# Altium footprint library Theremin_Project1.PcbLib: 37 footprints (part 1 of 3)
Each footprint in its own frame and in the unit in brackets; x right, y up, seen from the top. Pads: shape width x height; smd on the part's side, far side on the other; paste and mask are expansions set on the pad; w line width, h text height; cw(c..) or ccw(c..) is an arc to the next point about the centre after c.
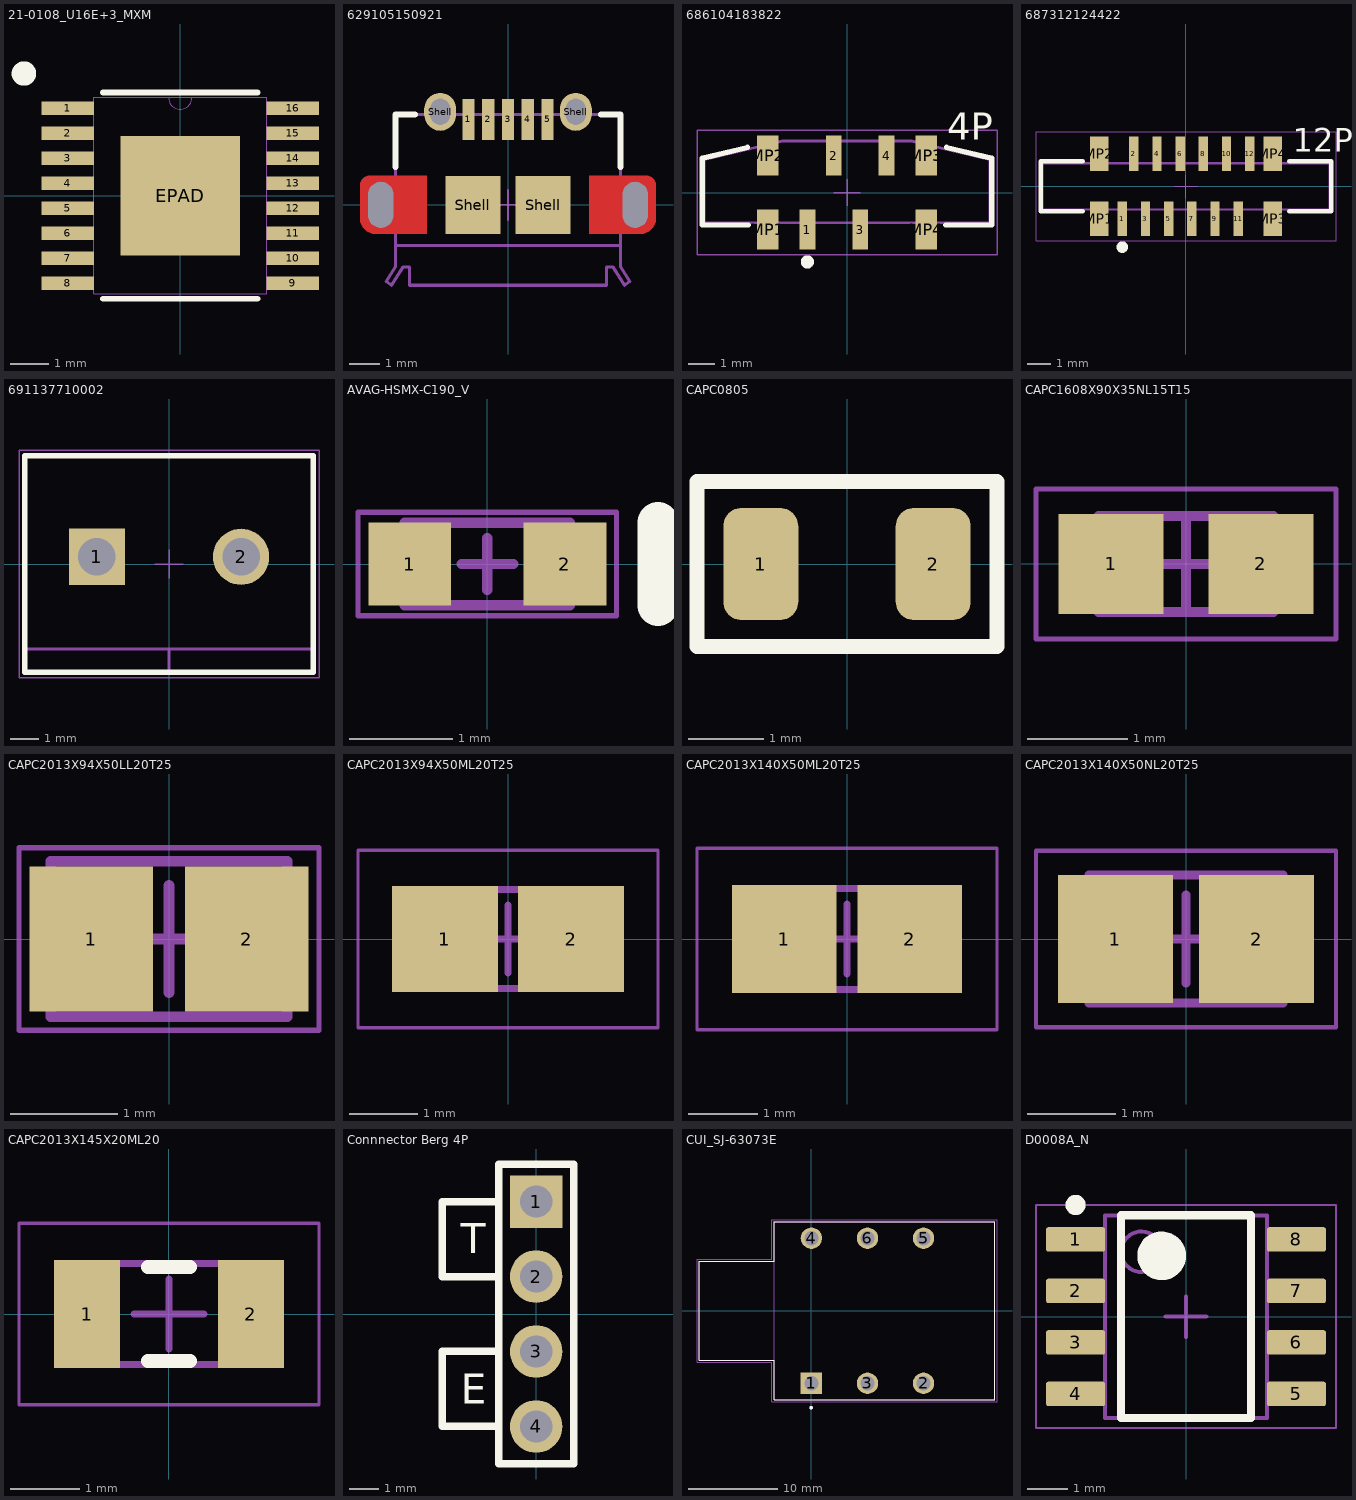
[diagram p0: the footprints below, top view; thin cyan lines are the x and y axes]

## 21-0108_U16E+3_MXM [mil]
pads (17):
  rect 53.5x14 smd paste+0 mask+0: 1(-115.25,89.57) 2(-115.25,63.98) 3(-115.25,38.39) 4(-115.25,12.8) 5(-115.25,-12.8) 6(-115.25,-38.39) 7(-115.25,-63.98) 8(-115.25,-89.57) 9(115.25,-89.57) 10(115.25,-63.98) 11(115.25,-38.39) 12(115.25,-12.8) 13(115.25,12.8) 14(115.25,38.39) 15(115.25,63.98) 16(115.25,89.57)
  rect 122x122 smd paste-60.5 mask+0: EPAD(0,0)
Top Overlay:
  circle w15: c-160,125 r5
  lines w6: -78.92,-105.5 78.92,-105.5 ; -78.92,105.5 78.92,105.5
Top Paste:
  region: 57.06,-3.94 3.94,-3.94 3.94,-57.06 57.06,-57.06
  region: 57.06,57.06 3.94,57.06 3.94,3.94 57.06,3.94
  region: -3.94,-3.94 -57.06,-3.94 -57.06,-57.06 -3.94,-57.06
  region: -3.94,57.06 -57.06,57.06 -57.06,3.94 -3.94,3.94
Mechanical 13:
  lines w0: -12,100.5 ccw(c0,100.5) 12,100.5
  lines w1: -128,-95.57 -88.5,-95.57 -88.5,-83.57 -128,-83.57 -128,-95.57 ; -128,-69.98 -88.5,-69.98 -88.5,-57.98 -128,-57.98 -128,-69.98 ; -128,-44.39 -88.5,-44.39 -88.5,-32.39 -128,-32.39 -128,-44.39 ; -128,-18.8 -88.5,-18.8 -88.5,-6.8 -128,-6.8 -128,-18.8 ; -128,6.8 -88.5,6.8 -88.5,18.8 -128,18.8 -128,6.8 ; -128,32.39 -88.5,32.39 -88.5,44.39 -128,44.39 -128,32.39 ; -128,57.98 -88.5,57.98 -88.5,69.98 -128,69.98 -128,57.98 ; -128,83.57 -88.5,83.57 -88.5,95.57 -128,95.57 -128,83.57 ; -88.5,-100.5 -88.5,100.5 88.5,100.5 88.5,-100.5 -88.5,-100.5 ; 88.5,-95.57 128,-95.57 128,-83.57 88.5,-83.57 88.5,-95.57 ; 88.5,-69.98 128,-69.98 128,-57.98 88.5,-57.98 88.5,-69.98 ; 88.5,-44.39 128,-44.39 128,-32.39 88.5,-32.39 88.5,-44.39 ; 88.5,-18.8 128,-18.8 128,-6.8 88.5,-6.8 88.5,-18.8 ; 88.5,6.8 128,6.8 128,18.8 88.5,18.8 88.5,6.8 ; 88.5,32.39 128,32.39 128,44.39 88.5,44.39 88.5,32.39 ; 88.5,57.98 128,57.98 128,69.98 88.5,69.98 88.5,57.98 ; 88.5,83.57 128,83.57 128,95.57 88.5,95.57 88.5,83.57
3D body "21-0108_U16E+3_MXM.step": height 43.11, standoff -2.01, extent -127.99,-100.51 127.99,100.51

## 629105150921 [mm] "Micro USB 2.0 Type AB Horizontal"
height 3
pads (11):
  rect 0.4x1.35 smd: 1(-1.3,2.805) 2(-0.65,2.805) 3(0,2.805) 4(0.65,2.805) 5(1.3,2.805)
  round 0 / inner oval 1.4x2.1 / far side oval 1.4x2.1 hole 0.825 slot 1.5 at 90 deg mask+0.102: Shell(-4.175,0)
  oval 1.05x1.25 hole 0.65 slot 0.85 at 90 deg: Shell(-2.225,3.055) Shell(2.225,3.055)
  rect 1.8x1.9 smd: Shell(-1.15,0) Shell(1.15,0)
  round 0 / inner round 0 / far side oval 1.4x2.1 hole 0.825 slot 1.5 at 90 deg mask+0.102: Shell(4.175,0)
Top Layer:
  region: 4.353,-0.95 4.452,-0.95 4.636,-0.874 4.776,-0.733 4.852,-0.549 4.852,-0.45 4.852,0.65 4.852,0.71 4.807,0.82 4.722,0.904 4.612,0.95 4.553,0.95 2.668,0.95 2.668,-0.95
  region: -4.353,-0.95 -4.452,-0.95 -4.636,-0.874 -4.776,-0.733 -4.852,-0.549 -4.852,-0.45 -4.852,0.65 -4.852,0.71 -4.807,0.82 -4.722,0.904 -4.612,0.95 -4.553,0.95 -2.668,0.95 -2.668,-0.95
Top Overlay:
  lines w0.2: -3.7,1.25 -3.7,2.97 -3.05,2.97 ; 3.05,2.97 3.7,2.97 3.7,1.25
Mechanical 2:
  lines w0.1: -3.7,-1.33 3.7,-1.33
  text "PCB Edge" at -1.1,-2 h0.41
Mechanical 13:
  lines w0.1: -4,-2.515 -3.7,-2.04 -3.7,2.97 3.7,2.97 3.7,-2.04 4,-2.515 3.825,-2.64 3.45,-2.04 3.24,-2.04 3.24,-2.64 -3.24,-2.64 -3.24,-2.04 -3.45,-2.04 -3.825,-2.64 -4,-2.515
Mechanical 15:
  lines w0.05: -0.5,0 0.5,0 ; 0,-0.5 0,0.5
3D body "629105150921.stp": height 2.76, standoff -0.52, extent -4.3,-2.64 4.3,3.23

## 686104183822 [mm] "ZIF Connectors, Vertical, Type A, pitch 1mm, 4p"
height 4
pads (8):
  rect 0.6x1.5 smd: 1(-1.5,-1.4) 2(-0.5,1.4) 3(0.5,-1.4) 4(1.5,1.4)
  rect 0.8x1.5 smd: MP1(-3,-1.4) MP2(-3,1.4) MP3(3,1.4) MP4(3,-1.4)
Top Overlay:
  circle w0.25: c-1.5,-2.625 r0.125
  lines w0.2: -3.765,1.708 -5.475,1.297 -5.475,-1.225 -3.725,-1.225 ; 3.725,-1.225 5.475,-1.225 5.475,1.297 3.765,1.708
  text "4P" at 3.8,2 h1.02
Mechanical 13:
  lines w0.1: -5.4,-1.15 5.4,-1.15 5.4,1.24 2.45,1.949 -2.45,1.95 -5.4,1.24 -5.4,-1.15
Mechanical 15:
  lines w0.05: -0.5,0 0.5,0 ; 0,-0.5 0,0.5 ; -5.675,-2.35 5.675,-2.35 5.675,2.35 -5.675,2.35 -5.675,-2.35
3D body "686104183822.stp": height 4, standoff 0, extent -5.4,-1.65 5.4,1.95

## 687312124422 [mm] "ZIF Connectors, Vertical, Type A, pitch 0.5mm, 12p"
height 4.5
pads (16):
  rect 0.4x1.5 smd: 1(-2.75,-1.4) 2(-2.25,1.4) 3(-1.75,-1.4) 4(-1.25,1.4) 5(-0.75,-1.4) 6(-0.25,1.4) 7(0.25,-1.4) 8(0.75,1.4) 9(1.25,-1.4) 10(1.75,1.4) 11(2.25,-1.4) 12(2.75,1.4)
  rect 0.8x1.5 smd: MP1(-3.75,-1.4) MP2(-3.75,1.4) MP3(3.75,-1.4) MP4(3.75,1.4)
Top Overlay:
  circle w0.25: c-2.75,-2.625 r0.125
  lines w0.2: -4.45,-1.075 -6.275,-1.075 -6.275,1.075 -4.45,1.075 ; 4.45,-1.075 6.275,-1.075 6.275,1.075 4.45,1.075
  text "12P" at 4.6,1.5 h1.02
Mechanical 13:
  lines w0.1: -6.2,-1 -6.2,1 6.2,1 6.2,-1 -6.2,-1
Mechanical 15:
  lines w0.05: -0.5,0 0.5,0 ; 0,-0.5 0,0.5 ; -6.475,-2.35 -6.475,2.35 6.475,2.35 6.475,-2.35 -6.475,-2.35
3D body "687312124422.stp": height 4.92, standoff 0.02, extent -6.2,-1.75 6.2,1.75

## 691137710002 [mm] "Horizontal Cable Entry with Pressure Clamp, pitch 5mm, 02p"
height 11.5
pads (2):
  rect 1.95x1.95 hole 1.3: 1(-2.5,0.25)
  round 1.95 hole 1.3: 2(2.5,0.25)
Top Overlay:
  lines w0.2: -5,-3.75 5,-3.75 5,3.75 -5,3.75 -5,-3.75
Mechanical 13:
  lines w0.1: -5,-2.95 5,-2.95 ; 0,-3.75 0,-2.95 ; -5,-3.75 -5,3.75 5,3.75 5,-3.75 -5,-3.75
Mechanical 15:
  lines w0.05: -0.5,0 0.5,0 ; 0,-0.5 0,0.5 ; -5.2,-3.95 5.2,-3.95 5.2,3.95 -5.2,3.95 -5.2,-3.95
3D body "691137710002.stp": height 11.6, standoff -3.5, extent -5,-3.75 5,3.75

## AVAG-HSMX-C190_V [mm] "SMD, 2-Leads, Body 1.6x0.8mm, Height 0.9mm"
height 0.9
pads (2):
  rect 0.8x0.8 smd: 1(-0.75,0) 2(0.75,0)
Top Overlay:
  lines w0.4: 1.65,-0.4 1.65,0.4
Mechanical 13:
  lines w0.1: -0.8,-0.4 0.8,-0.4 0.8,0.4 -0.8,0.4 -0.8,-0.4
Mechanical 15:
  lines w0.05: -1.25,-0.5 -1.25,0.5 1.25,0.5 1.25,-0.5 -1.25,-0.5
  lines w0.1: -0.25,0 0.25,0 ; 0,-0.25 0,0.25
3D body: height 0.4, standoff 0, extent -0.8,-0.4 0.8,0.4
3D body: height 0.9, standoff 0.4, extent -0.55,-0.4 0.55,0.4

## CAPC0805 [mm] "Chip Capacitor, 2-Leads, Body 2.00x1.25mm, IPC Low Density"
height 0.6
pads (2):
  rrect50% 1x1.5 smd: 1(-1.15,0) 2(1.15,0)
Top Overlay:
  lines w0.2: -2,-1.1 2,-1.1 2,1.1 -2,1.1 -2,-1.1
Top Assembly:
  text ".Comment" at 2.5,-0.6 h1
3D body "CAPC2012X06M.step": height 0.6, standoff 0, extent -1.05,-0.675 1.05,0.675

## CAPC1608X90X35NL15T15 [mm] "Chip Capacitor, 2-Leads, Body 1.60x0.81mm, IPC Medium Density"
height 0.9
pads (2):
  rect 1.05x1 smd: 1(-0.75,0) 2(0.75,0)
Mechanical 13:
  lines w0.1: -0.875,-0.48 0.875,-0.48 0.875,0.48 -0.875,0.48 -0.875,-0.48
Mechanical 15:
  lines w0.05: -1.5,-0.75 1.5,-0.75 1.5,0.75 -1.5,0.75 -1.5,-0.75
  lines w0.1: -0.48,0 0.48,0 ; 0,-0.48 0,0.48
3D body: height 0.9, standoff 0, extent 0.525,-0.48 0.875,0.48
3D body: height 0.9, standoff 0, extent -0.875,-0.48 -0.525,0.48
3D body: height 0.9, standoff 0, extent -0.525,-0.48 0.525,0.48

## CAPC2013X94X50LL20T25 [mm] "Chip Capacitor, 2-Leads, Body 2.01x1.25mm, IPC High Density"
height 0.94
pads (2):
  rect 1.15x1.35 smd: 1(-0.725,0) 2(0.725,0)
Mechanical 13:
  lines w0.1: -1.105,-0.725 1.105,-0.725 1.105,0.725 -1.105,0.725 -1.105,-0.725
Mechanical 15:
  lines w0.05: -1.4,-0.85 1.4,-0.85 1.4,0.85 -1.4,0.85 -1.4,-0.85
  lines w0.1: -0.5,0 0.5,0 ; 0,-0.5 0,0.5
3D body: height 0.94, standoff 0, extent 0.605,-0.725 1.105,0.725
3D body: height 0.94, standoff 0, extent -1.105,-0.725 -0.605,0.725
3D body: height 0.94, standoff 0, extent -0.605,-0.725 0.605,0.725

## CAPC2013X94X50ML20T25 [mm] "Chip Capacitor, 2-Leads, Body 2.01x1.25mm, IPC Low Density"
height 0.94
pads (2):
  rect 1.55x1.55 smd: 1(-0.925,0) 2(0.925,0)
Mechanical 13:
  lines w0.1: -1.105,-0.725 1.105,-0.725 1.105,0.725 -1.105,0.725 -1.105,-0.725
Mechanical 15:
  lines w0.05: -2.2,-1.3 2.2,-1.3 2.2,1.3 -2.2,1.3 -2.2,-1.3
  lines w0.1: -0.5,0 0.5,0 ; 0,-0.5 0,0.5
3D body: height 0.94, standoff 0, extent 0.605,-0.725 1.105,0.725
3D body: height 0.94, standoff 0, extent -1.105,-0.725 -0.605,0.725
3D body: height 0.94, standoff 0, extent -0.605,-0.725 0.605,0.725

## CAPC2013X140X50ML20T25 [mm] "Chip Capacitor, 2-Leads, Body 2.00x1.25mm, IPC Low Density"
height 1.4
pads (2):
  rect 1.5x1.55 smd: 1(-0.9,0) 2(0.9,0)
Mechanical 13:
  lines w0.1: -1.1,-0.725 1.1,-0.725 1.1,0.725 -1.1,0.725 -1.1,-0.725
Mechanical 15:
  lines w0.05: -2.15,-1.3 2.15,-1.3 2.15,1.3 -2.15,1.3 -2.15,-1.3
  lines w0.1: -0.5,0 0.5,0 ; 0,-0.5 0,0.5
3D body: height 1.4, standoff 0, extent 0.6,-0.725 1.1,0.725
3D body: height 1.4, standoff 0, extent -1.1,-0.725 -0.6,0.725
3D body: height 1.4, standoff 0, extent -0.6,-0.725 0.6,0.725

## CAPC2013X140X50NL20T25 [mm] "Chip Capacitor, 2-Leads, Body 2.00x1.25mm, IPC Medium Density"
height 1.4
pads (2):
  rect 1.3x1.45 smd: 1(-0.8,0) 2(0.8,0)
Mechanical 13:
  lines w0.1: -1.1,-0.725 1.1,-0.725 1.1,0.725 -1.1,0.725 -1.1,-0.725
Mechanical 15:
  lines w0.05: -1.7,-1 1.7,-1 1.7,1 -1.7,1 -1.7,-1
  lines w0.1: -0.5,0 0.5,0 ; 0,-0.5 0,0.5
3D body: height 1.4, standoff 0, extent 0.6,-0.725 1.1,0.725
3D body: height 1.4, standoff 0, extent -1.1,-0.725 -0.6,0.725
3D body: height 1.4, standoff 0, extent -0.6,-0.725 0.6,0.725

## CAPC2013X145X20ML20 [mm] "Chip Capacitor, 2-Leads, Body 2.20x1.45mm, IPC Low Density"
height 1.45
pads (2):
  rect 0.95x1.55 smd: 1(-1.175,0) 2(1.175,0)
Top Overlay:
  lines w0.2: -0.3,-0.675 0.3,-0.675 ; -0.3,0.675 0.3,0.675
Mechanical 13:
  lines w0.1: -1.1,-0.725 1.1,-0.725 1.1,0.725 -1.1,0.725 -1.1,-0.725
Mechanical 15:
  lines w0.05: -2.15,-1.3 2.15,-1.3 2.15,1.3 -2.15,1.3 -2.15,-1.3
  lines w0.1: -0.5,0 0.5,0 ; 0,-0.5 0,0.5
3D body: height 1.45, standoff 0, extent 0.9,-0.725 1.1,0.725
3D body: height 1.45, standoff 0, extent -1.1,-0.725 -0.9,0.725
3D body: height 1.45, standoff 0, extent -0.9,-0.725 0.9,0.725

## Connnector Berg 4P [mil]
pads (4):
  rect 70x70 hole 43.31: 1(0,150)
  round 70 hole 43.31: 2(0,50) 3(0,-50) 4(0,-150)
Top Overlay:
  lines w10: -50,-150 -125,-150 -125,-50 -50,-50 ; -50,50 -125,50 -125,150 -50,150 ; -50,-200 50,-200 50,200 -50,200 -50,-200
  text "E" at -100.24,-119.92 h40
  text "T" at -100.24,80.87 h40
3D body "61300411121_Download_STP_61300411121_rev1BergMale.stp": height 337.72, standoff -116.61, extent -50,-199.99 50,200.01

## CUI_SJ-63073E [mm]
pads (6):
  rect 2.4x2.4 hole 1.6: 1(0,-8.15)
  round 2.4 hole 1.6: 2(12.6,-8.15) 3(6.3,-8.15) 4(0,8.15) 5(12.6,8.15) 6(6.3,8.15)
Top Overlay:
  circle w0.2: c-0.04,-10.88 r0.1
  lines w0.127: -12.6,-5.556 -4.2,-5.556 -4.2,-10 20.6,-10 20.6,10 -4.2,10 -4.2,5.556 -12.6,5.556 -12.6,-5.556
Mechanical 13:
  circle w0.2: c-0.04,-10.88 r0.1
  lines w0.127: -4.2,-5.556 -4.2,5.556 ; -4.2,-5.556 -4.2,-5.6 -4.2,-10 20.6,-10 20.6,10 -4.2,10 -4.2,5.6 -4.2,5.556 ; -4.2,-5.556 -12.6,-5.556 -12.6,5.556 -4.2,5.556
Mechanical 15:
  lines w0.05: -12.85,-5.806 -4.45,-5.806 -4.45,-10.25 20.85,-10.25 20.85,10.25 -4.45,10.25 -4.45,5.806 -12.85,5.806 -12.85,-5.806
3D body "CUI_DEVICES_SJ-63073E.sldprt": height 15.71, standoff -3.78, extent -12.536,-10.16 20.664,9.84

## D0008A_N [mm] "SOIC, 8-Leads, Body 5x4mm, Pitch 1.27mm, IPC Medium Density"
height 1.75
pads (8):
  rrect17% 1.45x0.6 smd: 1(-2.725,1.905) 2(-2.725,0.635) 3(-2.725,-0.635) 4(-2.725,-1.905) 5(2.725,-1.905) 6(2.725,-0.635) 7(2.725,0.635) 8(2.725,1.905)
Top Overlay:
  circle w0.6: c-0.6,1.5 r0.3
  circle w0.25: c-2.725,2.755 r0.125
  lines w0.2: -1.6,-2.5 1.6,-2.5 1.6,2.5 -1.6,2.5 -1.6,-2.5
Mechanical 1:
  text ".Designator" at -1.397,-0.254 h0.6
Mechanical 13:
  circle w0.1: c-1.1,1.6 r0.5
  lines w0.1: -2,-2.5 2,-2.5 2,2.5 -2,2.5 -2,-2.5
Mechanical 15:
  lines w0.05: -3.7,-2.75 3.7,-2.75 3.7,2.75 -3.7,2.75 -3.7,-2.75
  lines w0.1: -0.5,0 0.5,0 ; 0,-0.5 0,0.5
3D body "SOIC-8akaD0008AakaM08A.stp": height 1.63, standoff 0, extent -3,-2.45 3,2.45